# EAGLE library part ENC424J600-I/PT (library ENC424J600_ethernet_circuits (1))
IC ETHERNET CTRLR W/SPI 44-TQFP// Ethernet Controller 10/100 Base-T PHY SPI, Parallel Interface 44-TQFP (10x10)// Datasheet link: http://ww1.microchip.com/downloads/en/DeviceDoc/39935c.pdf
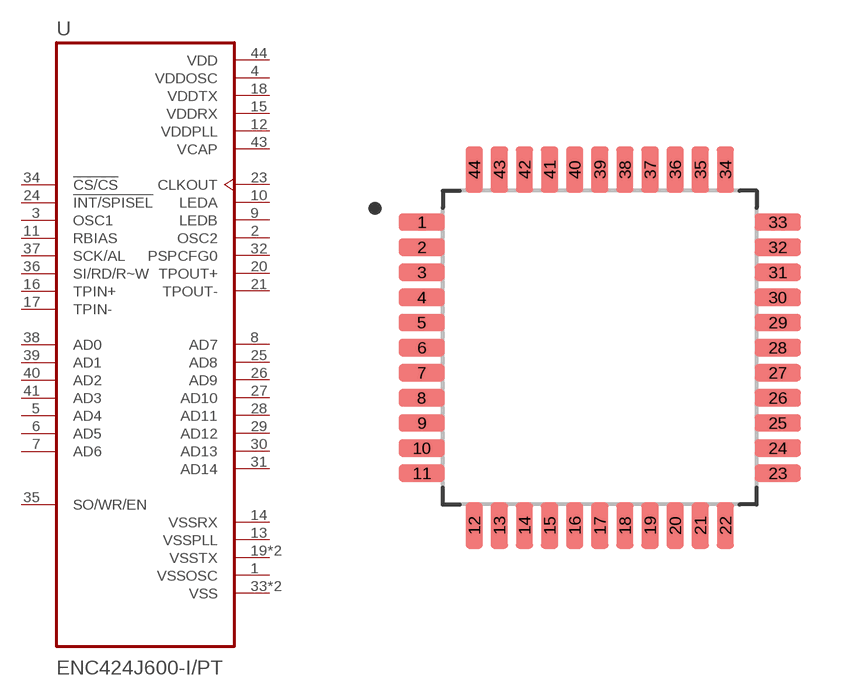
[diagram p0: symbol with the pads of QFP80P1200X1200X120-44N; footprint QFP80P1200X1200X120-44N]

Designator prefix -

## ENC424J600-I/PT (AVAILABILITY: In Stock; DESCRIPTION: Ethernet Controller 10/100 Base-T PHY SPI, Parallel Interface 44-TQFP (10x10); MF: Microchip; MP: ENC424J600-I/PT; PACKAGE: TQFP-44 Microchip; PRICE: None)  [QFP80P1200X1200X120-44N]
1  VSSOSC  pwr
2  OSC2  out
3  OSC1  in
4  VDDOSC  pwr
5  AD4
6  AD5
7  AD6
8  AD7
9  LEDB  out
10  LEDA  out
11  RBIAS  in
12  VDDPLL  pwr
13  VSSPLL  pwr
14  VSSRX  pwr
15  VDDRX  pwr
16  TPIN+  in
17  TPIN-  in
18  VDDTX  pwr
19  VSSTX  pwr
20  TPOUT+  out
21  TPOUT-  out
22  VSSTX  pwr
23  CLKOUT  out
24  !INT/SPISEL  in
25  AD8
26  AD9
27  AD10
28  AD11
29  AD12
30  AD13
31  AD14
32  PSPCFG0  out
33  VSS  pwr
34  !CS/CS  in
35  SO/WR/EN
36  SI/RD/R~W  in
37  SCK/AL  in
38  AD0
39  AD1
40  AD2
41  AD3
42  VSS  pwr
43  VCAP  pwr
44  VDD  pwr

## Footprint QFP80P1200X1200X120-44N (pad centres in mm)
smd 1.47 x 0.55: 1 -5.67,4; 2 -5.67,3.2; 3 -5.67,2.4; 4 -5.67,1.6; 5 -5.67,0.8; 6 -5.67,0; 7 -5.67,-0.8; 8 -5.67,-1.6; 9 -5.67,-2.4; 10 -5.67,-3.2; 11 -5.67,-4; 23 5.67,-4; 24 5.67,-3.2; 25 5.67,-2.4; 26 5.67,-1.6; 27 5.67,-0.8; 28 5.67,0; 29 5.67,0.8; 30 5.67,1.6; 31 5.67,2.4; 32 5.67,3.2; 33 5.67,4
smd 0.55 x 1.47: 12 -4,-5.67; 13 -3.2,-5.67; 14 -2.4,-5.67; 15 -1.6,-5.67; 16 -0.8,-5.67; 17 0,-5.67; 18 0.8,-5.67; 19 1.6,-5.67; 20 2.4,-5.67; 21 3.2,-5.67; 22 4,-5.67; 34 4,5.67; 35 3.2,5.67; 36 2.4,5.67; 37 1.6,5.67; 38 0.8,5.67; 39 0,5.67; 40 -0.8,5.67; 41 -1.6,5.67; 42 -2.4,5.67; 43 -3.2,5.67; 44 -4,5.67